# EAGLE library part SFM-110-X1-XXX-D-LC (library J-Samtec-SFM-110-X1-XXX-D-LC)
0.05"X0.05" SOCKET STRIP DOUBLE ROW ASSEMBLY. MANUFACTURER: SAMTEC.
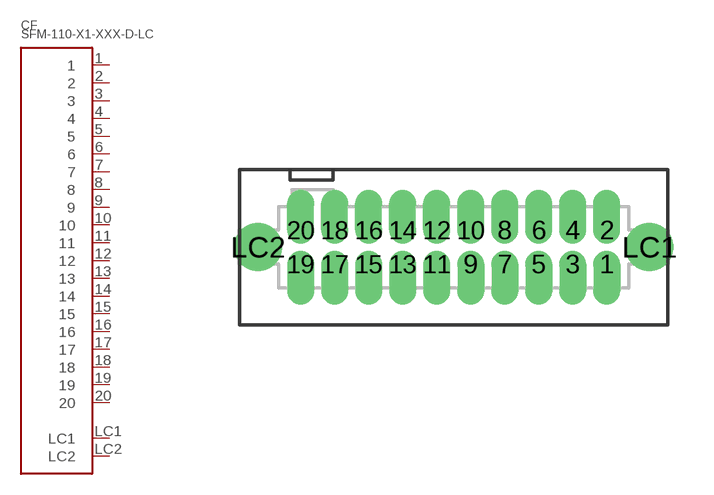
[diagram p0: symbol with the pads of SFM-110-X1-XXX-D-LC; footprint SFM-110-X1-XXX-D-LC]

Designator prefix CF

## SFM-110-X1-XXX-D-LC  [SFM-110-X1-XXX-D-LC]
1  1  pas
2  2  pas
3  3  pas
4  4  pas
5  5  pas
6  6  pas
7  7  pas
8  8  pas
9  9  pas
10  10  pas
11  11  pas
12  12  pas
13  13  pas
14  14  pas
15  15  pas
16  16  pas
17  17  pas
18  18  pas
19  19  pas
20  20  pas
LC1  LC1  pas
LC2  LC2  pas

## Footprint SFM-110-X1-XXX-D-LC (pad centres in mm)
0.05"X0.05" SOCKET STRIP DOUBLE ROW ASSEMBLY. MANUFACTURER: SAMTEC.
drill 0.5 offset: 1 5.715,-0.635; 2 5.715,0.635; 3 4.445,-0.635; 4 4.445,0.635; 5 3.175,-0.635; 6 3.175,0.635; 7 1.905,-0.635; 8 1.905,0.635; 9 0.635,-0.635; 10 0.635,0.635; 11 -0.635,-0.635; 12 -0.635,0.635; 13 -1.905,-0.635; 14 -1.905,0.635; 15 -3.175,-0.635; 16 -3.175,0.635; 17 -4.445,-0.635; 18 -4.445,0.635; 19 -5.715,-0.635; 20 -5.715,0.635
drill 1.194: LC1 7.303,0; LC2 -7.303,0